# Altium footprint library OptoIso.PcbLib: 14 footprints
Each footprint in its own frame and in the unit in brackets; x right, y up, seen from the top. Pads: shape width x height; smd on the part's side, far side on the other; paste and mask are expansions set on the pad; w line width, h text height; cw(c..) or ccw(c..) is an arc to the next point about the centre after c.
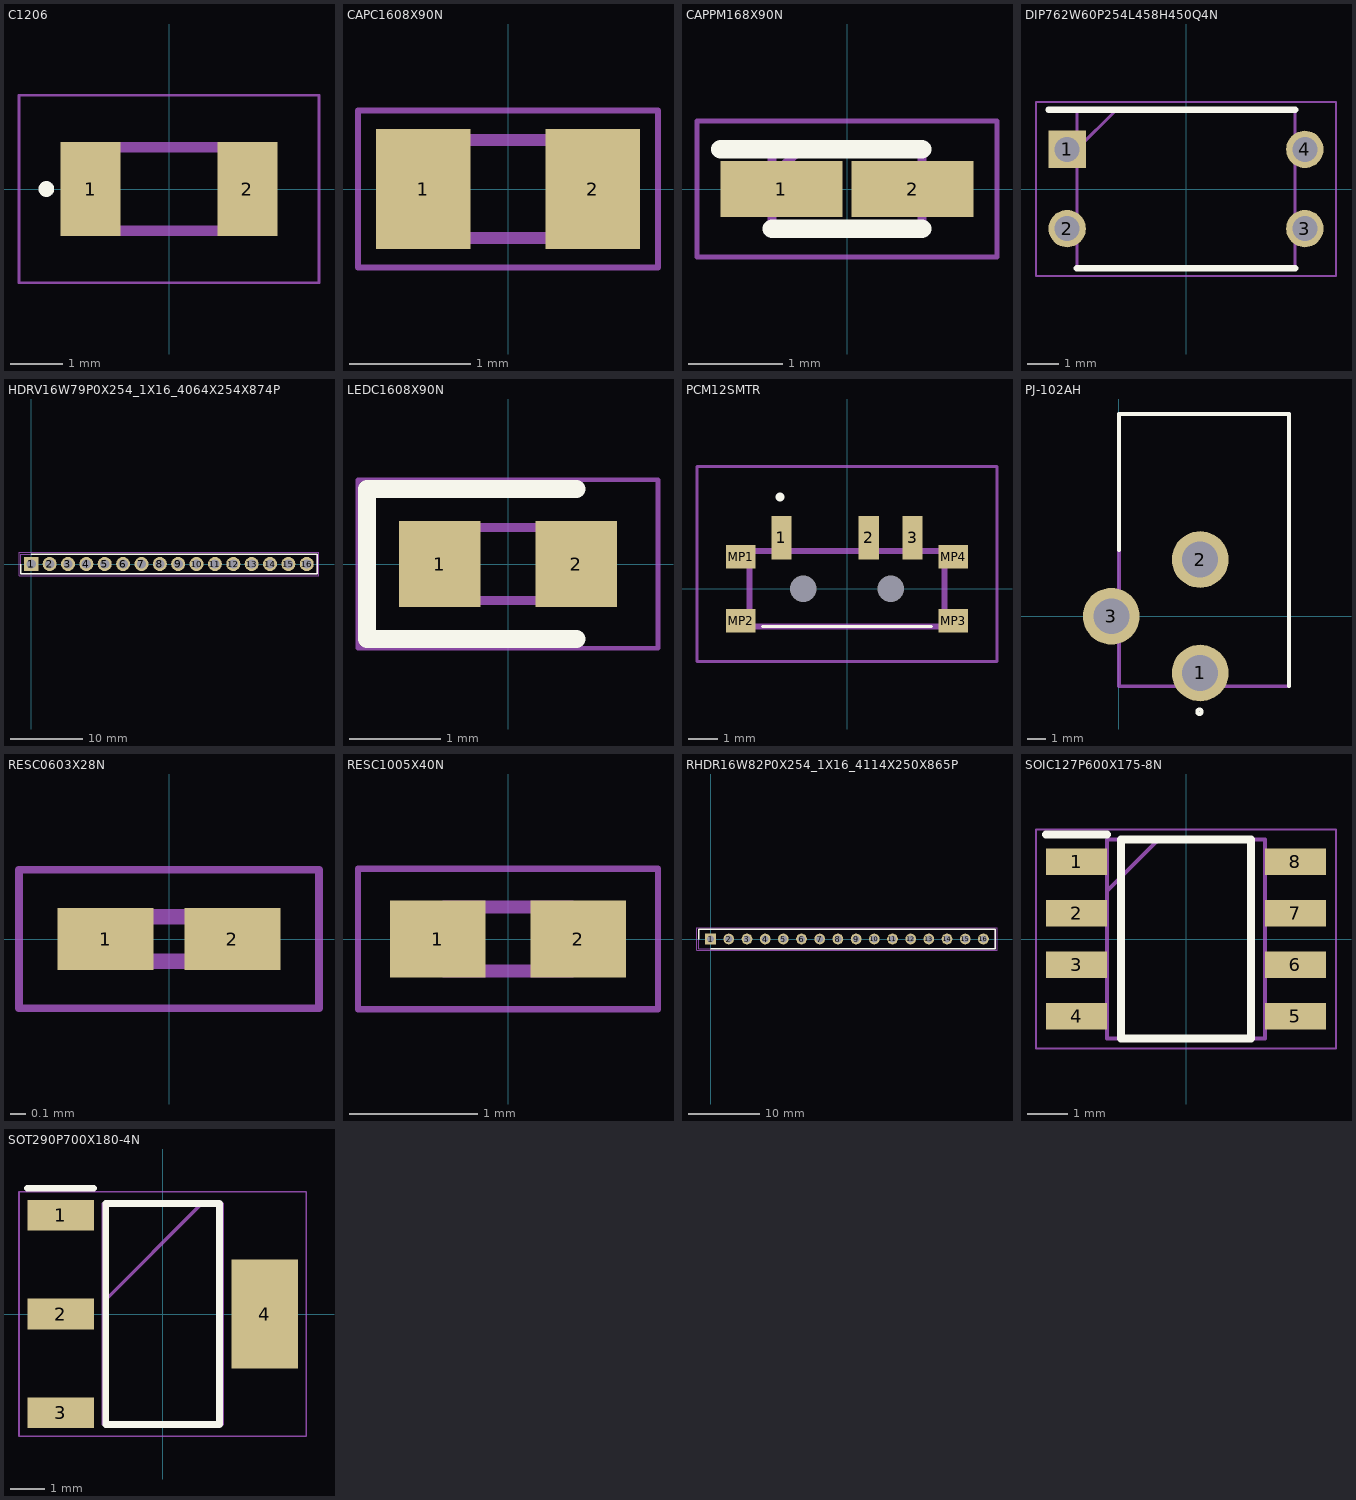
[diagram p0: the footprints below, top view; thin cyan lines are the x and y axes]

## C1206 [mm]
pads (2):
  rect 1.15x1.8 smd: 1(-1.5,0) 2(1.5,0)
Top Overlay:
  circle w0.2: c-2.35,0 r0.05
Mechanical 13:
  lines w0.2: -1.6,-0.8 1.6,-0.8 1.6,0.8 -1.6,0.8 -1.6,-0.8
Mechanical 15:
  lines w0.05: -2.875,-1.8 2.875,-1.8 2.875,1.8 -2.875,1.8 -2.875,-1.8
3D body "C1206C225K5RACTU.stp": height 1.8, standoff 0, extent -1.7,-0.9 1.7,0.9

## CAPC1608X90N [mm]
pads (2):
  rect 0.78x0.99 smd: 1(-0.7,0) 2(0.7,0)
Mechanical 13:
  lines w0.1: -0.8,-0.405 -0.8,0.405 0.8,0.405 0.8,-0.405 -0.8,-0.405
Mechanical 15:
  lines w0.05: -1.24,-0.65 -1.24,0.65 1.24,0.65 1.24,-0.65 -1.24,-0.65
3D body "0603YC104K4T2A.stp": height 0.9, standoff 0, extent -0.8,-0.405 0.8,0.405

## CAPPM168X90N [mm]
pads (2):
  rect 1.3x0.6 smd: 1(-0.7,0) 2(0.7,0)
Top Overlay:
  lines w0.2: -1.35,0.425 0.8,0.425 ; -0.8,-0.425 0.8,-0.425
Mechanical 13:
  lines w0.1: -0.8,0.125 -0.5,0.425 ; -0.8,-0.425 -0.8,0.425 0.8,0.425 0.8,-0.425 -0.8,-0.425
Mechanical 15:
  lines w0.05: -1.6,-0.725 -1.6,0.725 1.6,0.725 1.6,-0.725 -1.6,-0.725
3D body "TCM0J106M8R.stp": height 0.9, standoff 0, extent -0.8,-0.425 0.8,0.425

## DIP762W60P254L458H450Q4N [mm]
pads (4):
  rect 1.2x1.2 hole 0.8: 1(-3.81,1.27)
  round 1.2 hole 0.8: 2(-3.81,-1.27) 3(3.81,-1.27) 4(3.81,1.27)
Top Overlay:
  lines w0.2: -4.41,2.54 3.5,2.54 ; -3.5,-2.54 3.5,-2.54
Mechanical 13:
  lines w0.1: -3.5,1.27 -2.23,2.54 ; -3.5,-2.54 -3.5,2.54 3.5,2.54 3.5,-2.54 -3.5,-2.54
Mechanical 15:
  lines w0.05: -4.81,-2.79 -4.81,2.79 4.81,2.79 4.81,-2.79 -4.81,-2.79
3D body "PC817A.stp": height 4.5, standoff -3.5, extent -3.96,-2.29 3.96,2.29

## HDRV16W79P0X254_1X16_4064X254X874P [mm]
pads (16):
  rect 1.95x1.95 hole 1.3: 1(0,0)
  round 1.95 hole 1.3: 2(2.54,0) 3(5.08,0) 4(7.62,0) 5(10.16,0) 6(12.7,0) 7(15.24,0) 8(17.78,0) 9(20.32,0) 10(22.86,0) 11(25.4,0) 12(27.94,0) 13(30.48,0) 14(33.02,0) 15(35.56,0) 16(38.1,0)
Top Overlay:
  lines w0.2: -1.445,0 -1.445,-1.345 39.545,-1.345 39.545,1.345 0,1.345
Mechanical 13:
  lines w0.1: -1.445,-1.345 39.545,-1.345 39.545,1.345 -1.445,1.345 -1.445,-1.345
Mechanical 15:
  lines w0.05: -1.695,-1.595 39.795,-1.595 39.795,1.595 -1.695,1.595 -1.695,-1.595
3D body "61301611121.stp": height 8.74, standoff -3.2, extent -1.27,-1.27 39.37,1.27

## LEDC1608X90N [mm]
pads (2):
  rect 0.9x0.95 smd: 1(-0.75,0) 2(0.75,0)
Top Overlay:
  lines w0.2: 0.75,-0.825 -1.55,-0.825 -1.55,0.825 0.75,0.825
Mechanical 13:
  lines w0.1: -0.8,0.133 -0.533,0.4 ; -0.8,-0.4 -0.8,0.4 0.8,0.4 0.8,-0.4 -0.8,-0.4
Mechanical 15:
  lines w0.05: -1.65,-0.925 -1.65,0.925 1.65,0.925 1.65,-0.925 -1.65,-0.925
3D body "LTST-C190GKT.stp": height 0.8, standoff 0, extent -0.82,-0.4 0.78,0.4

## PCBComponent_1 [mm]

## PCM12SMTR [mm]
pads (9):
  rect 0.7x1.5 smd: 1(-2.25,1.75) 2(0.75,1.75) 3(2.25,1.75)
  round 0.45 hole 0.9 unplated: MH1(-1.5,0) MH2(1.5,0)
  rect 1x0.8 smd: MP1(-3.65,1.1) MP2(-3.65,-1.1) MP3(3.65,-1.1) MP4(3.65,1.1)
Top Overlay:
  lines w0.1: -2.9,-1.3 2.9,-1.3
  lines w0.2: -2.3,3.1 cw(c-2.3,3.15) -2.3,3.2 ; -2.3,3.1 ccw(c-2.3,3.15) -2.3,3.2 ; -2.3,3.1 cw(c-2.3,3.15) -2.3,3.2
Mechanical 13:
  lines w0.2: -3.35,-1.3 3.35,-1.3 3.35,1.3 -3.35,1.3 -3.35,-1.3
Mechanical 15:
  lines w0.1: -5.15,-2.5 5.15,-2.5 5.15,4.2 -5.15,4.2 -5.15,-2.5
3D body "PCM12SMTR.stp": height 1.41, standoff -0.49, extent -3.85,-2.84 3.85,2.16

## PJ-102AH [mm]
pads (3):
  round 3 hole 1.9: 1(4.3,-3) 2(4.3,3) 3(-0.4,0)
Top Overlay:
  circle w0.2: c4.261,-5.051 r0.119
  lines w0.2: 0,3.5 0,10.7 9,10.7 9,-3.7
Mechanical 13:
  lines w0.2: 0,-3.7 9,-3.7 9,10.7 0,10.7 0,-3.7
3D body "PJ-102BH.stp": height 11.26, standoff -3.24, extent -0.59,-3.69 8.81,10.71

## RESC0603X28N [mm]
pads (2):
  rect 0.625x0.4 smd: 1(-0.412,0) 2(0.412,0)
Mechanical 13:
  lines w0.1: -0.29,-0.145 -0.29,0.145 0.29,0.145 0.29,-0.145 -0.29,-0.145
Mechanical 15:
  lines w0.05: -0.975,-0.45 -0.975,0.45 0.975,0.45 0.975,-0.45 -0.975,-0.45
3D body "CPF0201D10K2C1.stp": height 0.28, standoff 0, extent -0.29,-0.145 0.29,0.145

## RESC1005X40N [mm]
pads (2):
  rect 0.75x0.6 smd: 1(-0.55,0) 2(0.55,0)
Mechanical 13:
  lines w0.1: -0.5,-0.25 -0.5,0.25 0.5,0.25 0.5,-0.25 -0.5,-0.25
Mechanical 15:
  lines w0.05: -1.175,-0.55 -1.175,0.55 1.175,0.55 1.175,-0.55 -1.175,-0.55
3D body "CR0402-FX-3300GLF.stp": height 0.35, standoff 0, extent -0.5,-0.25 0.5,0.25

## RHDR16W82P0X254_1X16_4114X250X865P [mm]
pads (16):
  rect 1.5x1.5 hole 1: 1(0,0)
  round 1.5 hole 1: 2(2.54,0) 3(5.08,0) 4(7.62,0) 5(10.16,0) 6(12.7,0) 7(15.24,0) 8(17.78,0) 9(20.32,0) 10(22.86,0) 11(25.4,0) 12(27.94,0) 13(30.48,0) 14(33.02,0) 15(35.56,0) 16(38.1,0)
Top Overlay:
  lines w0.2: -1.645,0 -1.645,1.35 39.745,1.35 39.745,-1.35 0,-1.35
Mechanical 13:
  lines w0.1: -1.645,-1.35 39.745,-1.35 39.745,1.35 -1.645,1.35 -1.645,-1.35
Mechanical 15:
  lines w0.05: -1.895,-1.6 39.995,-1.6 39.995,1.6 -1.895,1.6 -1.895,-1.6
3D body "61301611821.stp": height 8.65, standoff -3.25, extent -1.52,-1.25 39.62,1.25

## SOIC127P600X175-8N [mm]
pads (8):
  rect 1.5x0.65 smd: 1(-2.7,1.905) 2(-2.7,0.635) 3(-2.7,-0.635) 4(-2.7,-1.905) 5(2.7,-1.905) 6(2.7,-0.635) 7(2.7,0.635) 8(2.7,1.905)
Top Overlay:
  lines w0.2: -3.45,2.58 -1.95,2.58 ; -1.6,-2.45 -1.6,2.45 1.6,2.45 1.6,-2.45 -1.6,-2.45
Mechanical 13:
  lines w0.1: -1.95,1.18 -0.68,2.45 ; -1.95,-2.45 -1.95,2.45 1.95,2.45 1.95,-2.45 -1.95,-2.45
Mechanical 15:
  lines w0.05: -3.7,-2.7 -3.7,2.7 3.7,2.7 3.7,-2.7 -3.7,-2.7
3D body "MCP2551-I_SN.stp": height 1.75, standoff 0, extent -3,-2.45 3,2.45

## SOT290P700X180-4N [mm]
pads (4):
  rect 1.95x0.9 smd: 1(-3,2.9) 2(-3,0) 3(-3,-2.9)
  rect 1.95x3.2 smd: 4(3,0)
Top Overlay:
  lines w0.2: -3.975,3.7 -2.025,3.7 ; -1.675,-3.25 -1.675,3.25 1.675,3.25 1.675,-3.25 -1.675,-3.25
Mechanical 13:
  lines w0.1: -1.75,0.35 1.15,3.25 ; -1.75,-3.25 -1.75,3.25 1.75,3.25 1.75,-3.25 -1.75,-3.25
Mechanical 15:
  lines w0.05: -4.225,-3.6 -4.225,3.6 4.225,3.6 4.225,-3.6 -4.225,-3.6
3D body "AMS1117-5.0.stp": height 1.8, standoff 0, extent -3.5,-3.25 3.5,3.25